# Altium integrated library Linear Technology Comparators.IntLib: 630 symbols (part 12 of 24)
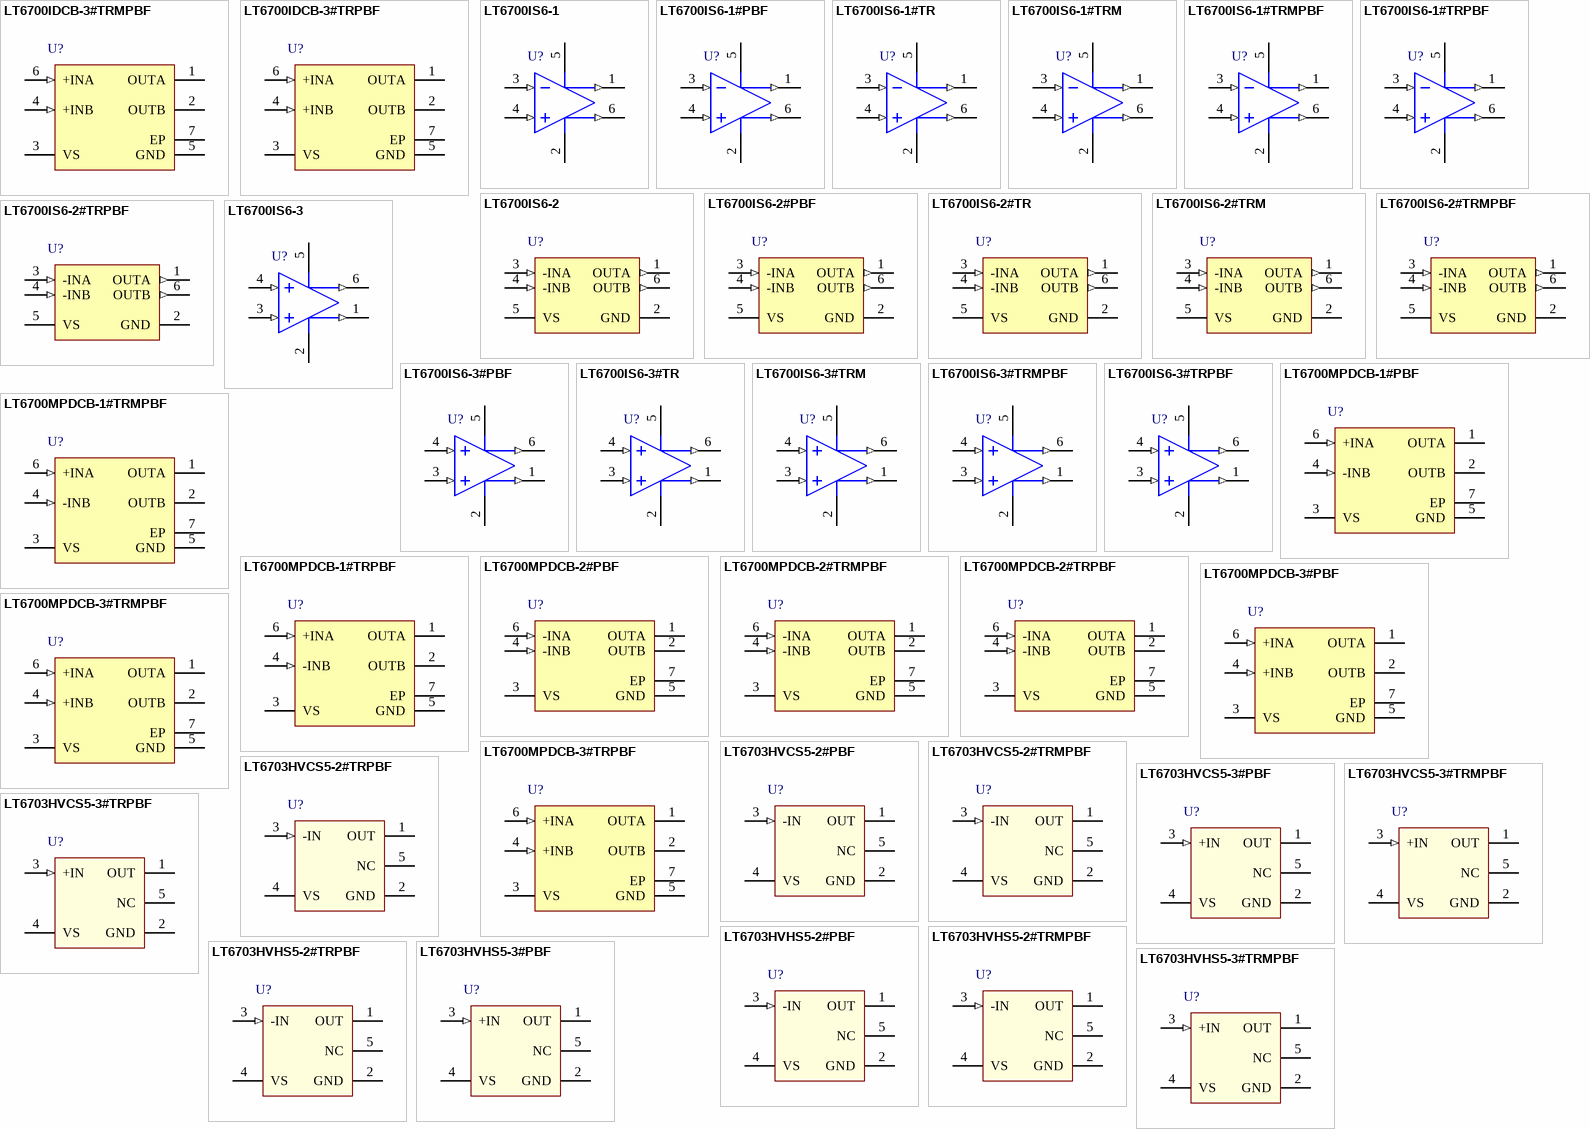
[diagram p35: symbols LT6700IDCB-3#TRMPBF to LT6703HVHS5-3#TRMPBF]

## LT6700IS6-1#TRM
designator U?
Micropower, Low Voltage, Comparator with 400 mV Reference, 2 Channels, 1.4 to 18 V, -40 to +85 degC, 6-pin Plastic TSOT-23 (S6), Mini Tape and Reel; Generic Part Number: LT6700-1; Manufacturer: Linear Technology; PartNumber: LT6700IS6-1#TRM; Channels (#): 2; Prop Delay (us): 18; Supply Current (uA) Guaranteed: 10; Supply Current (uA) Typical: 5.7; Vos (mV) Typical: 6; Vs Min (V): 1.4; DatasheetVersion: Rev G; PackageReference: S6; PackageDescription: 6-Pin Plastic TSOT-23, Body 2.9 x 1.63 mm, Pitch 0.95 mm; Supplier 1: Digi-Key; Supplier Part Number 1: LT6700IS6-1#TRM-ND; Supplier 2: Newark; Supplier Part Number 2: 57M9718; Features: Comparator, Window Comparator, Reference, Over-the-Top Inputs; RoHS: N; Supply Voltage Range: 1.4 to 18 V; Vs Max (V): 18; Mounting Technology: Surface Mount; Code_JEDEC: MO-193; ComponentLink1Description: Manufacturer URL; ComponentLink1URL: http://www.linear.com/; ComponentLink2Description: Datasheet; ComponentLink2URL: http://cds.linear.com/docs/en/datasheet/6700123fg.pdf; ComponentLink3Description: Package Specification; ComponentLink3URL: http://cds.linear.com/docs/en/packaging/SOT_6_05-08-1636.pdf
footprint LT-S6_N (SOT23, 6-Leads, Body 2.9x1.63mm, Pitch 0.95mm, IPC Medium Density)
footprint LT-S6_L (SOT23, 6-Leads, Body 2.9x1.63mm, Pitch 0.95mm, IPC High Density)
footprint LT-S6_M (SOT23, 6-Leads, Body 2.9x1.63mm, Pitch 0.95mm, IPC Low Density)
pins: 1 OUTA (out), 2 GND (power), 3 +INA (in), 4 -INB (in), 5 VS (power), 6 OUTB (out)

## LT6700IS6-1#TRMPBF
designator U?
Micropower, Low Voltage, Comparator with 400 mV Reference, 2 Channels, 1.4 to 18 V, -40 to +85 degC, 6-pin Plastic TSOT-23 (S6), Mini Tape and Reel; Generic Part Number: LT6700-1; Manufacturer: Linear Technology; PartNumber: LT6700IS6-1#TRMPBF; Channels (#): 2; Prop Delay (us): 18; Supply Current (uA) Guaranteed: 10; Supply Current (uA) Typical: 5.7; Vos (mV) Typical: 6; Vs Min (V): 1.4; DatasheetVersion: Rev G; PackageReference: S6; PackageDescription: 6-Pin Plastic TSOT-23, Body 2.9 x 1.63 mm, Pitch 0.95 mm; Supplier 1: Digi-Key; Supplier Part Number 1: LT6700IS6-1#TRMPBFTR-ND; Supplier 2: Digi-Key; Supplier Part Number 2: LT6700IS6-1#TRMPBFCT-ND; Supplier 3: Digi-Key; Supplier Part Number 3: LT6700IS6-1#TRMPBFDKR-ND; Supplier 4: Newark; Supplier Part Number 4: 57M9719; Features: Comparator, Window Comparator, Reference, Over-the-Top Inputs; RoHS: Y; Supply Voltage Range: 1.4 to 18 V; Vs Max (V): 18; Mounting Technology: Surface Mount; Code_JEDEC: MO-193; ComponentLink1Description: Manufacturer URL; ComponentLink1URL: http://www.linear.com/; ComponentLink2Description: Datasheet; ComponentLink2URL: http://cds.linear.com/docs/en/datasheet/6700123fg.pdf; ComponentLink3Description: Package Specification; ComponentLink3URL: http://cds.linear.com/docs/en/packaging/SOT_6_05-08-1636.pdf
footprint LT-S6_N (SOT23, 6-Leads, Body 2.9x1.63mm, Pitch 0.95mm, IPC Medium Density)
footprint LT-S6_L (SOT23, 6-Leads, Body 2.9x1.63mm, Pitch 0.95mm, IPC High Density)
footprint LT-S6_M (SOT23, 6-Leads, Body 2.9x1.63mm, Pitch 0.95mm, IPC Low Density)
pins: 1 OUTA (out), 2 GND (power), 3 +INA (in), 4 -INB (in), 5 VS (power), 6 OUTB (out)

## LT6700IS6-1#TRPBF
designator U?
Micropower, Low Voltage, Comparator with 400 mV Reference, 2 Channels, 1.4 to 18 V, -40 to +85 degC, 6-pin Plastic TSOT-23 (S6), Tape and Reel; Generic Part Number: LT6700-1; Manufacturer: Linear Technology; PartNumber: LT6700IS6-1#TRPBF; Channels (#): 2; Prop Delay (us): 18; Supply Current (uA) Guaranteed: 10; Supply Current (uA) Typical: 5.7; Vos (mV) Typical: 6; Vs Min (V): 1.4; DatasheetVersion: Rev G; PackageReference: S6; PackageDescription: 6-Pin Plastic TSOT-23, Body 2.9 x 1.63 mm, Pitch 0.95 mm; Supplier 1: Digi-Key; Supplier Part Number 1: LT6700IS6-1#TRPBF-ND; Supplier 2: Newark; Supplier Part Number 2: 57M9720; Features: Comparator, Window Comparator, Reference, Over-the-Top Inputs; RoHS: Y; Supply Voltage Range: 1.4 to 18 V; Vs Max (V): 18; Mounting Technology: Surface Mount; Code_JEDEC: MO-193; ComponentLink1Description: Manufacturer URL; ComponentLink1URL: http://www.linear.com/; ComponentLink2Description: Datasheet; ComponentLink2URL: http://cds.linear.com/docs/en/datasheet/6700123fg.pdf; ComponentLink3Description: Package Specification; ComponentLink3URL: http://cds.linear.com/docs/en/packaging/SOT_6_05-08-1636.pdf
footprint LT-S6_N (SOT23, 6-Leads, Body 2.9x1.63mm, Pitch 0.95mm, IPC Medium Density)
footprint LT-S6_L (SOT23, 6-Leads, Body 2.9x1.63mm, Pitch 0.95mm, IPC High Density)
footprint LT-S6_M (SOT23, 6-Leads, Body 2.9x1.63mm, Pitch 0.95mm, IPC Low Density)
pins: 1 OUTA (out), 2 GND (power), 3 +INA (in), 4 -INB (in), 5 VS (power), 6 OUTB (out)

## LT6700IS6-2
designator U?
Micropower, Low Voltage, Comparator with 400 mV Reference, 2 Channels, 1.4 to 18 V, -40 to +85 degC, 6-pin Plastic TSOT-23 (S6); Generic Part Number: LT6700-2; Manufacturer: Linear Technology; PartNumber: LT6700IS6-2; Channels (#): 2; Prop Delay (us): 18; Supply Current (uA) Guaranteed: 10; Supply Current (uA) Typical: 5.7; Vos (mV) Typical: 6; Vs Min (V): 1.4; DatasheetVersion: Rev G; PackageReference: S6; PackageDescription: 6-Pin Plastic TSOT-23, Body 2.9 x 1.63 mm, Pitch 0.95 mm; Features: Comparator, Reference, Over-the-Top Inputs; RoHS: N; Supply Voltage Range: 1.4 to 18 V; Vs Max (V): 18; Mounting Technology: Surface Mount; Code_JEDEC: MO-193; ComponentLink1Description: Manufacturer URL; ComponentLink1URL: http://www.linear.com/; ComponentLink2Description: Datasheet; ComponentLink2URL: http://cds.linear.com/docs/en/datasheet/6700123fg.pdf; ComponentLink3Description: Package Specification; ComponentLink3URL: http://cds.linear.com/docs/en/packaging/SOT_6_05-08-1636.pdf
footprint LT-S6_N (SOT23, 6-Leads, Body 2.9x1.63mm, Pitch 0.95mm, IPC Medium Density)
footprint LT-S6_L (SOT23, 6-Leads, Body 2.9x1.63mm, Pitch 0.95mm, IPC High Density)
footprint LT-S6_M (SOT23, 6-Leads, Body 2.9x1.63mm, Pitch 0.95mm, IPC Low Density)
pins: 1 OUTA (out), 2 GND (power), 3 -INA (in), 4 -INB (in), 5 VS (power), 6 OUTB (out)

## LT6700IS6-2#PBF
designator U?
Micropower, Low Voltage, Comparator with 400 mV Reference, 2 Channels, 1.4 to 18 V, -40 to +85 degC, 6-pin Plastic TSOT-23 (S6); Generic Part Number: LT6700-2; Manufacturer: Linear Technology; PartNumber: LT6700IS6-2#PBF; Channels (#): 2; Prop Delay (us): 18; Supply Current (uA) Guaranteed: 10; Supply Current (uA) Typical: 5.7; Vos (mV) Typical: 6; Vs Min (V): 1.4; DatasheetVersion: Rev G; PackageReference: S6; PackageDescription: 6-Pin Plastic TSOT-23, Body 2.9 x 1.63 mm, Pitch 0.95 mm; Supplier 1: Farnell; Supplier Part Number 1: 2294785; Supplier 2: Newark; Supplier Part Number 2: 78T4298; Features: Comparator, Reference, Over-the-Top Inputs; RoHS: Y; Supply Voltage Range: 1.4 to 18 V; Vs Max (V): 18; Mounting Technology: Surface Mount; Code_JEDEC: MO-193; ComponentLink1Description: Manufacturer URL; ComponentLink1URL: http://www.linear.com/; ComponentLink2Description: Datasheet; ComponentLink2URL: http://cds.linear.com/docs/en/datasheet/6700123fg.pdf; ComponentLink3Description: Package Specification; ComponentLink3URL: http://cds.linear.com/docs/en/packaging/SOT_6_05-08-1636.pdf
footprint LT-S6_N (SOT23, 6-Leads, Body 2.9x1.63mm, Pitch 0.95mm, IPC Medium Density)
footprint LT-S6_L (SOT23, 6-Leads, Body 2.9x1.63mm, Pitch 0.95mm, IPC High Density)
footprint LT-S6_M (SOT23, 6-Leads, Body 2.9x1.63mm, Pitch 0.95mm, IPC Low Density)
pins: 1 OUTA (out), 2 GND (power), 3 -INA (in), 4 -INB (in), 5 VS (power), 6 OUTB (out)

## LT6700IS6-2#TR
designator U?
Micropower, Low Voltage, Comparator with 400 mV Reference, 2 Channels, 1.4 to 18 V, -40 to +85 degC, 6-pin Plastic TSOT-23 (S6), Tape and Reel; Generic Part Number: LT6700-2; Manufacturer: Linear Technology; PartNumber: LT6700IS6-2#TR; Channels (#): 2; Prop Delay (us): 18; Supply Current (uA) Guaranteed: 10; Supply Current (uA) Typical: 5.7; Vos (mV) Typical: 6; Vs Min (V): 1.4; DatasheetVersion: Rev G; PackageReference: S6; PackageDescription: 6-Pin Plastic TSOT-23, Body 2.9 x 1.63 mm, Pitch 0.95 mm; Supplier 1: Digi-Key; Supplier Part Number 1: LT6700IS6-2#TR-ND; Supplier 2: Newark; Supplier Part Number 2: 57M9721; Features: Comparator, Reference, Over-the-Top Inputs; RoHS: N; Supply Voltage Range: 1.4 to 18 V; Vs Max (V): 18; Mounting Technology: Surface Mount; Code_JEDEC: MO-193; ComponentLink1Description: Manufacturer URL; ComponentLink1URL: http://www.linear.com/; ComponentLink2Description: Datasheet; ComponentLink2URL: http://cds.linear.com/docs/en/datasheet/6700123fg.pdf; ComponentLink3Description: Package Specification; ComponentLink3URL: http://cds.linear.com/docs/en/packaging/SOT_6_05-08-1636.pdf
footprint LT-S6_N (SOT23, 6-Leads, Body 2.9x1.63mm, Pitch 0.95mm, IPC Medium Density)
footprint LT-S6_L (SOT23, 6-Leads, Body 2.9x1.63mm, Pitch 0.95mm, IPC High Density)
footprint LT-S6_M (SOT23, 6-Leads, Body 2.9x1.63mm, Pitch 0.95mm, IPC Low Density)
pins: 1 OUTA (out), 2 GND (power), 3 -INA (in), 4 -INB (in), 5 VS (power), 6 OUTB (out)

## LT6700IS6-2#TRM
designator U?
Micropower, Low Voltage, Comparator with 400 mV Reference, 2 Channels, 1.4 to 18 V, -40 to +85 degC, 6-pin Plastic TSOT-23 (S6), Mini Tape and Reel; Generic Part Number: LT6700-2; Manufacturer: Linear Technology; PartNumber: LT6700IS6-2#TRM; Channels (#): 2; Prop Delay (us): 18; Supply Current (uA) Guaranteed: 10; Supply Current (uA) Typical: 5.7; Vos (mV) Typical: 6; Vs Min (V): 1.4; DatasheetVersion: Rev G; PackageReference: S6; PackageDescription: 6-Pin Plastic TSOT-23, Body 2.9 x 1.63 mm, Pitch 0.95 mm; Supplier 1: Digi-Key; Supplier Part Number 1: LT6700IS6-2#TRM-ND; Features: Comparator, Reference, Over-the-Top Inputs; RoHS: N; Supply Voltage Range: 1.4 to 18 V; Vs Max (V): 18; Mounting Technology: Surface Mount; Code_JEDEC: MO-193; ComponentLink1Description: Manufacturer URL; ComponentLink1URL: http://www.linear.com/; ComponentLink2Description: Datasheet; ComponentLink2URL: http://cds.linear.com/docs/en/datasheet/6700123fg.pdf; ComponentLink3Description: Package Specification; ComponentLink3URL: http://cds.linear.com/docs/en/packaging/SOT_6_05-08-1636.pdf
footprint LT-S6_N (SOT23, 6-Leads, Body 2.9x1.63mm, Pitch 0.95mm, IPC Medium Density)
footprint LT-S6_L (SOT23, 6-Leads, Body 2.9x1.63mm, Pitch 0.95mm, IPC High Density)
footprint LT-S6_M (SOT23, 6-Leads, Body 2.9x1.63mm, Pitch 0.95mm, IPC Low Density)
pins: 1 OUTA (out), 2 GND (power), 3 -INA (in), 4 -INB (in), 5 VS (power), 6 OUTB (out)

## LT6700IS6-2#TRMPBF
designator U?
Micropower, Low Voltage, Comparator with 400 mV Reference, 2 Channels, 1.4 to 18 V, -40 to +85 degC, 6-pin Plastic TSOT-23 (S6), Mini Tape and Reel; Generic Part Number: LT6700-2; Manufacturer: Linear Technology; PartNumber: LT6700IS6-2#TRMPBF; Channels (#): 2; Prop Delay (us): 18; Supply Current (uA) Guaranteed: 10; Supply Current (uA) Typical: 5.7; Vos (mV) Typical: 6; Vs Min (V): 1.4; DatasheetVersion: Rev G; PackageReference: S6; PackageDescription: 6-Pin Plastic TSOT-23, Body 2.9 x 1.63 mm, Pitch 0.95 mm; Supplier 1: Digi-Key; Supplier Part Number 1: LT6700IS6-2#TRMPBF-ND; Supplier 2: Newark; Supplier Part Number 2: 57M9723; Features: Comparator, Reference, Over-the-Top Inputs; RoHS: Y; Supply Voltage Range: 1.4 to 18 V; Vs Max (V): 18; Mounting Technology: Surface Mount; Code_JEDEC: MO-193; ComponentLink1Description: Manufacturer URL; ComponentLink1URL: http://www.linear.com/; ComponentLink2Description: Datasheet; ComponentLink2URL: http://cds.linear.com/docs/en/datasheet/6700123fg.pdf; ComponentLink3Description: Package Specification; ComponentLink3URL: http://cds.linear.com/docs/en/packaging/SOT_6_05-08-1636.pdf
footprint LT-S6_N (SOT23, 6-Leads, Body 2.9x1.63mm, Pitch 0.95mm, IPC Medium Density)
footprint LT-S6_L (SOT23, 6-Leads, Body 2.9x1.63mm, Pitch 0.95mm, IPC High Density)
footprint LT-S6_M (SOT23, 6-Leads, Body 2.9x1.63mm, Pitch 0.95mm, IPC Low Density)
pins: 1 OUTA (out), 2 GND (power), 3 -INA (in), 4 -INB (in), 5 VS (power), 6 OUTB (out)

## LT6700IS6-2#TRPBF
designator U?
Micropower, Low Voltage, Comparator with 400 mV Reference, 2 Channels, 1.4 to 18 V, -40 to +85 degC, 6-pin Plastic TSOT-23 (S6), Tape and Reel; Generic Part Number: LT6700-2; Manufacturer: Linear Technology; PartNumber: LT6700IS6-2#TRPBF; Channels (#): 2; Prop Delay (us): 18; Supply Current (uA) Guaranteed: 10; Supply Current (uA) Typical: 5.7; Vos (mV) Typical: 6; Vs Min (V): 1.4; DatasheetVersion: Rev G; PackageReference: S6; PackageDescription: 6-Pin Plastic TSOT-23, Body 2.9 x 1.63 mm, Pitch 0.95 mm; Supplier 1: Digi-Key; Supplier Part Number 1: LT6700IS6-2#TRPBF-ND; Supplier 2: Newark; Supplier Part Number 2: 57M9724; Features: Comparator, Reference, Over-the-Top Inputs; RoHS: Y; Supply Voltage Range: 1.4 to 18 V; Vs Max (V): 18; Mounting Technology: Surface Mount; Code_JEDEC: MO-193; ComponentLink1Description: Manufacturer URL; ComponentLink1URL: http://www.linear.com/; ComponentLink2Description: Datasheet; ComponentLink2URL: http://cds.linear.com/docs/en/datasheet/6700123fg.pdf; ComponentLink3Description: Package Specification; ComponentLink3URL: http://cds.linear.com/docs/en/packaging/SOT_6_05-08-1636.pdf
footprint LT-S6_N (SOT23, 6-Leads, Body 2.9x1.63mm, Pitch 0.95mm, IPC Medium Density)
footprint LT-S6_L (SOT23, 6-Leads, Body 2.9x1.63mm, Pitch 0.95mm, IPC High Density)
footprint LT-S6_M (SOT23, 6-Leads, Body 2.9x1.63mm, Pitch 0.95mm, IPC Low Density)
pins: 1 OUTA (out), 2 GND (power), 3 -INA (in), 4 -INB (in), 5 VS (power), 6 OUTB (out)

## LT6700IS6-3
designator U?
Micropower, Low Voltage, Comparator with 400 mV Reference, 2 Channels, 1.4 to 18 V, -40 to +85 degC, 6-pin Plastic TSOT-23 (S6); Generic Part Number: LT6700-3; Manufacturer: Linear Technology; PartNumber: LT6700IS6-3; Channels (#): 2; Prop Delay (us): 18; Supply Current (uA) Guaranteed: 10; Supply Current (uA) Typical: 5.7; Vos (mV) Typical: 6; Vs Min (V): 1.4; DatasheetVersion: Rev G; PackageReference: S6; PackageDescription: 6-Pin Plastic TSOT-23, Body 2.9 x 1.63 mm, Pitch 0.95 mm; Features: Comparator, Reference, Over-the-Top Inputs; RoHS: N; Supply Voltage Range: 1.4 to 18 V; Vs Max (V): 18; Mounting Technology: Surface Mount; Code_JEDEC: MO-193; ComponentLink1Description: Manufacturer URL; ComponentLink1URL: http://www.linear.com/; ComponentLink2Description: Datasheet; ComponentLink2URL: http://cds.linear.com/docs/en/datasheet/6700123fg.pdf; ComponentLink3Description: Package Specification; ComponentLink3URL: http://cds.linear.com/docs/en/packaging/SOT_6_05-08-1636.pdf
footprint LT-S6_N (SOT23, 6-Leads, Body 2.9x1.63mm, Pitch 0.95mm, IPC Medium Density)
footprint LT-S6_L (SOT23, 6-Leads, Body 2.9x1.63mm, Pitch 0.95mm, IPC High Density)
footprint LT-S6_M (SOT23, 6-Leads, Body 2.9x1.63mm, Pitch 0.95mm, IPC Low Density)
pins: 1 OUTA (out), 2 GND (power), 3 +INA (in), 4 +INB (in), 5 VS (power), 6 OUTB (out)

## LT6700IS6-3#PBF
designator U?
Micropower, Low Voltage, Comparator with 400 mV Reference, 2 Channels, 1.4 to 18 V, -40 to +85 degC, 6-pin Plastic TSOT-23 (S6); Generic Part Number: LT6700-3; Manufacturer: Linear Technology; PartNumber: LT6700IS6-3#PBF; Channels (#): 2; Prop Delay (us): 18; Supply Current (uA) Guaranteed: 10; Supply Current (uA) Typical: 5.7; Vos (mV) Typical: 6; Vs Min (V): 1.4; DatasheetVersion: Rev G; PackageReference: S6; PackageDescription: 6-Pin Plastic TSOT-23, Body 2.9 x 1.63 mm, Pitch 0.95 mm; Supplier 1: Newark; Supplier Part Number 1: 78T4299; Features: Comparator, Reference, Over-the-Top Inputs; RoHS: Y; Supply Voltage Range: 1.4 to 18 V; Vs Max (V): 18; Mounting Technology: Surface Mount; Code_JEDEC: MO-193; ComponentLink1Description: Manufacturer URL; ComponentLink1URL: http://www.linear.com/; ComponentLink2Description: Datasheet; ComponentLink2URL: http://cds.linear.com/docs/en/datasheet/6700123fg.pdf; ComponentLink3Description: Package Specification; ComponentLink3URL: http://cds.linear.com/docs/en/packaging/SOT_6_05-08-1636.pdf
footprint LT-S6_N (SOT23, 6-Leads, Body 2.9x1.63mm, Pitch 0.95mm, IPC Medium Density)
footprint LT-S6_L (SOT23, 6-Leads, Body 2.9x1.63mm, Pitch 0.95mm, IPC High Density)
footprint LT-S6_M (SOT23, 6-Leads, Body 2.9x1.63mm, Pitch 0.95mm, IPC Low Density)
pins: 1 OUTA (out), 2 GND (power), 3 +INA (in), 4 +INB (in), 5 VS (power), 6 OUTB (out)

## LT6700IS6-3#TR
designator U?
Micropower, Low Voltage, Comparator with 400 mV Reference, 2 Channels, 1.4 to 18 V, -40 to +85 degC, 6-pin Plastic TSOT-23 (S6), Tape and Reel; Generic Part Number: LT6700-3; Manufacturer: Linear Technology; PartNumber: LT6700IS6-3#TR; Channels (#): 2; Prop Delay (us): 18; Supply Current (uA) Guaranteed: 10; Supply Current (uA) Typical: 5.7; Vos (mV) Typical: 6; Vs Min (V): 1.4; DatasheetVersion: Rev G; PackageReference: S6; PackageDescription: 6-Pin Plastic TSOT-23, Body 2.9 x 1.63 mm, Pitch 0.95 mm; Supplier 1: Digi-Key; Supplier Part Number 1: LT6700IS6-3#TR-ND; Features: Comparator, Reference, Over-the-Top Inputs; RoHS: N; Supply Voltage Range: 1.4 to 18 V; Vs Max (V): 18; Mounting Technology: Surface Mount; Code_JEDEC: MO-193; ComponentLink1Description: Manufacturer URL; ComponentLink1URL: http://www.linear.com/; ComponentLink2Description: Datasheet; ComponentLink2URL: http://cds.linear.com/docs/en/datasheet/6700123fg.pdf; ComponentLink3Description: Package Specification; ComponentLink3URL: http://cds.linear.com/docs/en/packaging/SOT_6_05-08-1636.pdf
footprint LT-S6_N (SOT23, 6-Leads, Body 2.9x1.63mm, Pitch 0.95mm, IPC Medium Density)
footprint LT-S6_L (SOT23, 6-Leads, Body 2.9x1.63mm, Pitch 0.95mm, IPC High Density)
footprint LT-S6_M (SOT23, 6-Leads, Body 2.9x1.63mm, Pitch 0.95mm, IPC Low Density)
pins: 1 OUTA (out), 2 GND (power), 3 +INA (in), 4 +INB (in), 5 VS (power), 6 OUTB (out)

## LT6700IS6-3#TRM
designator U?
Micropower, Low Voltage, Comparator with 400 mV Reference, 2 Channels, 1.4 to 18 V, -40 to +85 degC, 6-pin Plastic TSOT-23 (S6), Mini Tape and Reel; Generic Part Number: LT6700-3; Manufacturer: Linear Technology; PartNumber: LT6700IS6-3#TRM; Channels (#): 2; Prop Delay (us): 18; Supply Current (uA) Guaranteed: 10; Supply Current (uA) Typical: 5.7; Vos (mV) Typical: 6; Vs Min (V): 1.4; DatasheetVersion: Rev G; PackageReference: S6; PackageDescription: 6-Pin Plastic TSOT-23, Body 2.9 x 1.63 mm, Pitch 0.95 mm; Supplier 1: Digi-Key; Supplier Part Number 1: LT6700IS6-3#TRM-ND; Features: Comparator, Reference, Over-the-Top Inputs; RoHS: N; Supply Voltage Range: 1.4 to 18 V; Vs Max (V): 18; Mounting Technology: Surface Mount; Code_JEDEC: MO-193; ComponentLink1Description: Manufacturer URL; ComponentLink1URL: http://www.linear.com/; ComponentLink2Description: Datasheet; ComponentLink2URL: http://cds.linear.com/docs/en/datasheet/6700123fg.pdf; ComponentLink3Description: Package Specification; ComponentLink3URL: http://cds.linear.com/docs/en/packaging/SOT_6_05-08-1636.pdf
footprint LT-S6_N (SOT23, 6-Leads, Body 2.9x1.63mm, Pitch 0.95mm, IPC Medium Density)
footprint LT-S6_L (SOT23, 6-Leads, Body 2.9x1.63mm, Pitch 0.95mm, IPC High Density)
footprint LT-S6_M (SOT23, 6-Leads, Body 2.9x1.63mm, Pitch 0.95mm, IPC Low Density)
pins: 1 OUTA (out), 2 GND (power), 3 +INA (in), 4 +INB (in), 5 VS (power), 6 OUTB (out)

## LT6700IS6-3#TRMPBF
designator U?
Micropower, Low Voltage, Comparator with 400 mV Reference, 2 Channels, 1.4 to 18 V, -40 to +85 degC, 6-pin Plastic TSOT-23 (S6), Mini Tape and Reel; Generic Part Number: LT6700-3; Manufacturer: Linear Technology; PartNumber: LT6700IS6-3#TRMPBF; Channels (#): 2; Prop Delay (us): 18; Supply Current (uA) Guaranteed: 10; Supply Current (uA) Typical: 5.7; Vos (mV) Typical: 6; Vs Min (V): 1.4; DatasheetVersion: Rev G; PackageReference: S6; PackageDescription: 6-Pin Plastic TSOT-23, Body 2.9 x 1.63 mm, Pitch 0.95 mm; Supplier 1: Digi-Key; Supplier Part Number 1: LT6700IS6-3#TRMPBFTR-ND; Supplier 2: Digi-Key; Supplier Part Number 2: LT6700IS6-3#TRMPBFCT-ND; Supplier 3: Digi-Key; Supplier Part Number 3: LT6700IS6-3#TRMPBFDKR-ND; Supplier 4: Farnell; Supplier Part Number 4: 2115819; Supplier 5: Newark; Supplier Part Number 5: 57M9727; Features: Comparator, Reference, Over-the-Top Inputs; RoHS: Y; Supply Voltage Range: 1.4 to 18 V; Vs Max (V): 18; Mounting Technology: Surface Mount; Code_JEDEC: MO-193; ComponentLink1Description: Manufacturer URL; ComponentLink1URL: http://www.linear.com/; ComponentLink2Description: Datasheet; ComponentLink2URL: http://cds.linear.com/docs/en/datasheet/6700123fg.pdf; ComponentLink3Description: Package Specification; ComponentLink3URL: http://cds.linear.com/docs/en/packaging/SOT_6_05-08-1636.pdf
footprint LT-S6_N (SOT23, 6-Leads, Body 2.9x1.63mm, Pitch 0.95mm, IPC Medium Density)
footprint LT-S6_L (SOT23, 6-Leads, Body 2.9x1.63mm, Pitch 0.95mm, IPC High Density)
footprint LT-S6_M (SOT23, 6-Leads, Body 2.9x1.63mm, Pitch 0.95mm, IPC Low Density)
pins: 1 OUTA (out), 2 GND (power), 3 +INA (in), 4 +INB (in), 5 VS (power), 6 OUTB (out)

## LT6700IS6-3#TRPBF
designator U?
Micropower, Low Voltage, Comparator with 400 mV Reference, 2 Channels, 1.4 to 18 V, -40 to +85 degC, 6-pin Plastic TSOT-23 (S6), Tape and Reel; Generic Part Number: LT6700-3; Manufacturer: Linear Technology; PartNumber: LT6700IS6-3#TRPBF; Channels (#): 2; Prop Delay (us): 18; Supply Current (uA) Guaranteed: 10; Supply Current (uA) Typical: 5.7; Vos (mV) Typical: 6; Vs Min (V): 1.4; DatasheetVersion: Rev G; PackageReference: S6; PackageDescription: 6-Pin Plastic TSOT-23, Body 2.9 x 1.63 mm, Pitch 0.95 mm; Supplier 1: Digi-Key; Supplier Part Number 1: LT6700IS6-3#TRPBF-ND; Features: Comparator, Reference, Over-the-Top Inputs; RoHS: Y; Supply Voltage Range: 1.4 to 18 V; Vs Max (V): 18; Mounting Technology: Surface Mount; Code_JEDEC: MO-193; ComponentLink1Description: Manufacturer URL; ComponentLink1URL: http://www.linear.com/; ComponentLink2Description: Datasheet; ComponentLink2URL: http://cds.linear.com/docs/en/datasheet/6700123fg.pdf; ComponentLink3Description: Package Specification; ComponentLink3URL: http://cds.linear.com/docs/en/packaging/SOT_6_05-08-1636.pdf
footprint LT-S6_N (SOT23, 6-Leads, Body 2.9x1.63mm, Pitch 0.95mm, IPC Medium Density)
footprint LT-S6_L (SOT23, 6-Leads, Body 2.9x1.63mm, Pitch 0.95mm, IPC High Density)
footprint LT-S6_M (SOT23, 6-Leads, Body 2.9x1.63mm, Pitch 0.95mm, IPC Low Density)
pins: 1 OUTA (out), 2 GND (power), 3 +INA (in), 4 +INB (in), 5 VS (power), 6 OUTB (out)

## LT6700MPDCB-1#PBF
designator U?
Micropower, Low Voltage, Comparator with 400 mV Reference, 2 Channels, 1.4 to 18 V, -55 to +125 degC, 6-pin Plastic DFN (DCB6); Generic Part Number: LT6700-1; Manufacturer: Linear Technology; PartNumber: LT6700MPDCB-1#PBF; Channels (#): 2; Prop Delay (us): 18; Supply Current (uA) Guaranteed: 10; Supply Current (uA) Typical: 5.7; Vos (mV) Typical: 6; Vs Min (V): 1.4; DatasheetVersion: Rev G; PackageReference: DCB6; PackageDescription: 6-Pin Plastic DFN, Body 2 × 3 mm, Pitch 1.35 mm; Supplier 1: Newark; Supplier Part Number 1: 78T4300; Features: Comparator, Window Comparator, Reference, Over-the-Top Inputs; RoHS: Y; Supply Voltage Range: 1.4 to 18 V; Vs Max (V): 18; Mounting Technology: Surface Mount; Code_JEDEC: M0-229; ComponentLink1Description: Manufacturer URL; ComponentLink1URL: http://www.linear.com/; ComponentLink2Description: Datasheet; ComponentLink2URL: http://cds.linear.com/docs/en/datasheet/6700123fg.pdf; ComponentLink3Description: Package Specification; ComponentLink3URL: http://cds.linear.com/docs/en/packaging/(DCB6)%20DFN%2005-08-1715%20Rev%20A.pdf
footprint LT-DCB6_V (SON, 6-Leads, Body 2x3mm, Pitch 0.5mm, Thermal Pad 1.35x1.65mm)
pins: 1 OUTA (oc) "Open-Collector Output of Comparator Section A This pin provides drive for up to 40mA of load current.off state voltage may be as high as 18V (36V for LT6700HV) above GND ,regardless of VS used.", 2 OUTB (oc) "Open-Collector Output of Comparator Section B  This pin provides drive for up to 40mA of load current .off state voltage may be as high as 18V(36V for LT6700HV)above  GND,regardless of VS used.", 3 VS (power) "Comparator Core Supply Voltage. The parts are characterized for operation with 1.4V =< VS =< 18V with respect to GND.", 4 -INB (in) "External Input for Comparator Section B. The voltage on this pin can range from -0.3V to 18V (36V for LT6700HV) with respect to GND regardless of VS used. The input is noninverting for the LT6700-3/LT6700HV-3, and inverting (See Datasheet)", 5 GND (power) "Ground. This pin is also the low side return of the internal 400mV reference", 6 +INA (in) "External Input for Comparator Section A. The voltage on this pin can range from -0.3V to 18V (36V for LT6700HV) with respect to GND regardless of VS used. The input is (See Datasheet)", 7 EP (power)

## LT6700MPDCB-1#TRMPBF
designator U?
Micropower, Low Voltage, Comparator with 400 mV Reference, 2 Channels, 1.4 to 18 V, -55 to +125 degC, 6-pin Plastic DFN (DCB6), Mini Tape and Reel; Generic Part Number: LT6700-1; Manufacturer: Linear Technology; PartNumber: LT6700MPDCB-1#TRMPBF; Channels (#): 2; Prop Delay (us): 18; Supply Current (uA) Guaranteed: 10; Supply Current (uA) Typical: 5.7; Vos (mV) Typical: 6; Vs Min (V): 1.4; DatasheetVersion: Rev G; PackageReference: DCB6; PackageDescription: 6-Pin Plastic DFN, Body 2 × 3 mm, Pitch 1.35 mm; Supplier 1: Digi-Key; Supplier Part Number 1: LT6700MPDCB-1#TRMPBF-ND; Supplier 2: Newark; Supplier Part Number 2: 15N5495; Features: Comparator, Window Comparator, Reference, Over-the-Top Inputs; RoHS: Y; Supply Voltage Range: 1.4 to 18 V; Vs Max (V): 18; Mounting Technology: Surface Mount; Code_JEDEC: M0-229; ComponentLink1Description: Manufacturer URL; ComponentLink1URL: http://www.linear.com/; ComponentLink2Description: Datasheet; ComponentLink2URL: http://cds.linear.com/docs/en/datasheet/6700123fg.pdf; ComponentLink3Description: Package Specification; ComponentLink3URL: http://cds.linear.com/docs/en/packaging/(DCB6)%20DFN%2005-08-1715%20Rev%20A.pdf
footprint LT-DCB6_V (SON, 6-Leads, Body 2x3mm, Pitch 0.5mm, Thermal Pad 1.35x1.65mm)
pins: 1 OUTA (oc) "Open-Collector Output of Comparator Section A This pin provides drive for up to 40mA of load current.off state voltage may be as high as 18V (36V for LT6700HV) above GND ,regardless of VS used.", 2 OUTB (oc) "Open-Collector Output of Comparator Section B  This pin provides drive for up to 40mA of load current .off state voltage may be as high as 18V(36V for LT6700HV)above  GND,regardless of VS used.", 3 VS (power) "Comparator Core Supply Voltage. The parts are characterized for operation with 1.4V =< VS =< 18V with respect to GND.", 4 -INB (in) "External Input for Comparator Section B. The voltage on this pin can range from -0.3V to 18V (36V for LT6700HV) with respect to GND regardless of VS used. The input is noninverting for the LT6700-3/LT6700HV-3, and inverting (See Datasheet)", 5 GND (power) "Ground. This pin is also the low side return of the internal 400mV reference", 6 +INA (in) "External Input for Comparator Section A. The voltage on this pin can range from -0.3V to 18V (36V for LT6700HV) with respect to GND regardless of VS used. The input is (See Datasheet)", 7 EP (power)

## LT6700MPDCB-1#TRPBF
designator U?
Micropower, Low Voltage, Comparator with 400 mV Reference, 2 Channels, 1.4 to 18 V, -55 to +125 degC, 6-pin Plastic DFN (DCB6), Tape and Reel; Generic Part Number: LT6700-1; Manufacturer: Linear Technology; PartNumber: LT6700MPDCB-1#TRPBF; Channels (#): 2; Prop Delay (us): 18; Supply Current (uA) Guaranteed: 10; Supply Current (uA) Typical: 5.7; Vos (mV) Typical: 6; Vs Min (V): 1.4; DatasheetVersion: Rev G; PackageReference: DCB6; PackageDescription: 6-Pin Plastic DFN, Body 2 × 3 mm, Pitch 1.35 mm; Supplier 1: Digi-Key; Supplier Part Number 1: LT6700MPDCB-1#TRPBF-ND; Features: Comparator, Window Comparator, Reference, Over-the-Top Inputs; RoHS: Y; Supply Voltage Range: 1.4 to 18 V; Vs Max (V): 18; Mounting Technology: Surface Mount; Code_JEDEC: M0-229; ComponentLink1Description: Manufacturer URL; ComponentLink1URL: http://www.linear.com/; ComponentLink2Description: Datasheet; ComponentLink2URL: http://cds.linear.com/docs/en/datasheet/6700123fg.pdf; ComponentLink3Description: Package Specification; ComponentLink3URL: http://cds.linear.com/docs/en/packaging/(DCB6)%20DFN%2005-08-1715%20Rev%20A.pdf
footprint LT-DCB6_V (SON, 6-Leads, Body 2x3mm, Pitch 0.5mm, Thermal Pad 1.35x1.65mm)
pins: 1 OUTA (oc) "Open-Collector Output of Comparator Section A This pin provides drive for up to 40mA of load current.off state voltage may be as high as 18V (36V for LT6700HV) above GND ,regardless of VS used.", 2 OUTB (oc) "Open-Collector Output of Comparator Section B  This pin provides drive for up to 40mA of load current .off state voltage may be as high as 18V(36V for LT6700HV)above  GND,regardless of VS used.", 3 VS (power) "Comparator Core Supply Voltage. The parts are characterized for operation with 1.4V =< VS =< 18V with respect to GND.", 4 -INB (in) "External Input for Comparator Section B. The voltage on this pin can range from -0.3V to 18V (36V for LT6700HV) with respect to GND regardless of VS used. The input is noninverting for the LT6700-3/LT6700HV-3, and inverting (See Datasheet)", 5 GND (power) "Ground. This pin is also the low side return of the internal 400mV reference", 6 +INA (in) "External Input for Comparator Section A. The voltage on this pin can range from -0.3V to 18V (36V for LT6700HV) with respect to GND regardless of VS used. The input is (See Datasheet)", 7 EP (power)

## LT6700MPDCB-2#PBF
designator U?
Micropower, Low Voltage, Comparator with 400 mV Reference, 2 Channels, 1.4 to 18 V, -55 to +125 degC, 6-pin Plastic DFN (DCB6); Generic Part Number: LT6700-2; Manufacturer: Linear Technology; PartNumber: LT6700MPDCB-2#PBF; Channels (#): 2; Prop Delay (us): 18; Supply Current (uA) Guaranteed: 10; Supply Current (uA) Typical: 5.7; Vos (mV) Typical: 6; Vs Min (V): 1.4; DatasheetVersion: Rev G; PackageReference: DCB6; PackageDescription: 6-Pin Plastic DFN, Body 2 × 3 mm, Pitch 1.35 mm; Supplier 1: Newark; Supplier Part Number 1: 78T4301; Features: Comparator, Reference, Over-the-Top Inputs; RoHS: Y; Supply Voltage Range: 1.4 to 18 V; Vs Max (V): 18; Mounting Technology: Surface Mount; Code_JEDEC: M0-229; ComponentLink1Description: Manufacturer URL; ComponentLink1URL: http://www.linear.com/; ComponentLink2Description: Datasheet; ComponentLink2URL: http://cds.linear.com/docs/en/datasheet/6700123fg.pdf; ComponentLink3Description: Package Specification; ComponentLink3URL: http://cds.linear.com/docs/en/packaging/(DCB6)%20DFN%2005-08-1715%20Rev%20A.pdf
footprint LT-DCB6_V (SON, 6-Leads, Body 2x3mm, Pitch 0.5mm, Thermal Pad 1.35x1.65mm)
pins: 1 OUTA (oc) "Open-Collector Output of Comparator Section A.This pin provides drive for up to 40mA of load current. Offstate voltage may be as high as 36V for LT6700HV above GND, regardless of VS used.", 2 OUTB (oc) "Open-Collector Output of Comparator Section B.This pin provides drive for up to 40mA of load current. Offstate voltage may be as high as 36V for LT6700HV above GND, regardless of VS used.", 3 VS (power) "Comparator Core Supply Voltage. The parts are characterized for operation with 1.4V =< VS =< 18V with respect to GND.", 4 -INB (in) "External Input for Comparator Section B. The voltage on this pin can range from -0.3V to 36V for LT6700HV withrespecttoGNDregardlessofVSused.TheinputisnoninvertingfortheLT6700-1/LT6700HV-1andLT6700-3/LT6700HV-3, and (See Datasheet)", 5 GND (power) "Ground. This pin is also the low side return of theinternal 400mV reference.", 6 -INA (in) "External Input for Comparator Section A. The voltage on this pin can range from -0.3V to 36V for LT6700HV withrespecttoGNDregardlessofVSused.TheinputisnoninvertingfortheLT6700-1/LT6700HV-1andLT6700-3/LT6700HV-3, and (See Datasheet)", 7 EP (power) "Soldered exposed pad (pin 7)  internally connected to gnd"

## LT6700MPDCB-2#TRMPBF
designator U?
Micropower, Low Voltage, Comparator with 400 mV Reference, 2 Channels, 1.4 to 18 V, -55 to +125 degC, 6-pin Plastic DFN (DCB6), Mini Tape and Reel; Generic Part Number: LT6700-2; Manufacturer: Linear Technology; PartNumber: LT6700MPDCB-2#TRMPBF; Channels (#): 2; Prop Delay (us): 18; Supply Current (uA) Guaranteed: 10; Supply Current (uA) Typical: 5.7; Vos (mV) Typical: 6; Vs Min (V): 1.4; DatasheetVersion: Rev G; PackageReference: DCB6; PackageDescription: 6-Pin Plastic DFN, Body 2 × 3 mm, Pitch 1.35 mm; Supplier 1: Digi-Key; Supplier Part Number 1: LT6700MPDCB-2#TRMPBF-ND; Supplier 2: Newark; Supplier Part Number 2: 15N5497; Features: Comparator, Reference, Over-the-Top Inputs; RoHS: Y; Supply Voltage Range: 1.4 to 18 V; Vs Max (V): 18; Mounting Technology: Surface Mount; Code_JEDEC: M0-229; ComponentLink1Description: Manufacturer URL; ComponentLink1URL: http://www.linear.com/; ComponentLink2Description: Datasheet; ComponentLink2URL: http://cds.linear.com/docs/en/datasheet/6700123fg.pdf; ComponentLink3Description: Package Specification; ComponentLink3URL: http://cds.linear.com/docs/en/packaging/(DCB6)%20DFN%2005-08-1715%20Rev%20A.pdf
footprint LT-DCB6_V (SON, 6-Leads, Body 2x3mm, Pitch 0.5mm, Thermal Pad 1.35x1.65mm)
pins: 1 OUTA (oc) "Open-Collector Output of Comparator Section A.This pin provides drive for up to 40mA of load current. Offstate voltage may be as high as 36V for LT6700HV above GND, regardless of VS used.", 2 OUTB (oc) "Open-Collector Output of Comparator Section B.This pin provides drive for up to 40mA of load current. Offstate voltage may be as high as 36V for LT6700HV above GND, regardless of VS used.", 3 VS (power) "Comparator Core Supply Voltage. The parts are characterized for operation with 1.4V =< VS =< 18V with respect to GND.", 4 -INB (in) "External Input for Comparator Section B. The voltage on this pin can range from -0.3V to 36V for LT6700HV withrespecttoGNDregardlessofVSused.TheinputisnoninvertingfortheLT6700-1/LT6700HV-1andLT6700-3/LT6700HV-3, and (See Datasheet)", 5 GND (power) "Ground. This pin is also the low side return of theinternal 400mV reference.", 6 -INA (in) "External Input for Comparator Section A. The voltage on this pin can range from -0.3V to 36V for LT6700HV withrespecttoGNDregardlessofVSused.TheinputisnoninvertingfortheLT6700-1/LT6700HV-1andLT6700-3/LT6700HV-3, and (See Datasheet)", 7 EP (power) "Soldered exposed pad (pin 7)  internally connected to gnd"

## LT6700MPDCB-2#TRPBF
designator U?
Micropower, Low Voltage, Comparator with 400 mV Reference, 2 Channels, 1.4 to 18 V, -55 to +125 degC, 6-pin Plastic DFN (DCB6), Tape and Reel; Generic Part Number: LT6700-2; Manufacturer: Linear Technology; PartNumber: LT6700MPDCB-2#TRPBF; Channels (#): 2; Prop Delay (us): 18; Supply Current (uA) Guaranteed: 10; Supply Current (uA) Typical: 5.7; Vos (mV) Typical: 6; Vs Min (V): 1.4; DatasheetVersion: Rev G; PackageReference: DCB6; PackageDescription: 6-Pin Plastic DFN, Body 2 × 3 mm, Pitch 1.35 mm; Supplier 1: Digi-Key; Supplier Part Number 1: LT6700MPDCB-2#TRPBF-ND; Features: Comparator, Reference, Over-the-Top Inputs; RoHS: Y; Supply Voltage Range: 1.4 to 18 V; Vs Max (V): 18; Mounting Technology: Surface Mount; Code_JEDEC: M0-229; ComponentLink1Description: Manufacturer URL; ComponentLink1URL: http://www.linear.com/; ComponentLink2Description: Datasheet; ComponentLink2URL: http://cds.linear.com/docs/en/datasheet/6700123fg.pdf; ComponentLink3Description: Package Specification; ComponentLink3URL: http://cds.linear.com/docs/en/packaging/(DCB6)%20DFN%2005-08-1715%20Rev%20A.pdf
footprint LT-DCB6_V (SON, 6-Leads, Body 2x3mm, Pitch 0.5mm, Thermal Pad 1.35x1.65mm)
pins: 1 OUTA (oc) "Open-Collector Output of Comparator Section A.This pin provides drive for up to 40mA of load current. Offstate voltage may be as high as 36V for LT6700HV above GND, regardless of VS used.", 2 OUTB (oc) "Open-Collector Output of Comparator Section B.This pin provides drive for up to 40mA of load current. Offstate voltage may be as high as 36V for LT6700HV above GND, regardless of VS used.", 3 VS (power) "Comparator Core Supply Voltage. The parts are characterized for operation with 1.4V =< VS =< 18V with respect to GND.", 4 -INB (in) "External Input for Comparator Section B. The voltage on this pin can range from -0.3V to 36V for LT6700HV withrespecttoGNDregardlessofVSused.TheinputisnoninvertingfortheLT6700-1/LT6700HV-1andLT6700-3/LT6700HV-3, and (See Datasheet)", 5 GND (power) "Ground. This pin is also the low side return of theinternal 400mV reference.", 6 -INA (in) "External Input for Comparator Section A. The voltage on this pin can range from -0.3V to 36V for LT6700HV withrespecttoGNDregardlessofVSused.TheinputisnoninvertingfortheLT6700-1/LT6700HV-1andLT6700-3/LT6700HV-3, and (See Datasheet)", 7 EP (power) "Soldered exposed pad (pin 7)  internally connected to gnd"

## LT6700MPDCB-3#PBF
designator U?
Micropower, Low Voltage, Comparator with 400 mV Reference, 2 Channels, 1.4 to 18 V, -55 to +125 degC, 6-pin Plastic DFN (DCB6); Generic Part Number: LT6700-3; Manufacturer: Linear Technology; PartNumber: LT6700MPDCB-3#PBF; Channels (#): 2; Prop Delay (us): 18; Supply Current (uA) Guaranteed: 10; Supply Current (uA) Typical: 5.7; Vos (mV) Typical: 6; Vs Min (V): 1.4; DatasheetVersion: Rev G; PackageReference: DCB6; PackageDescription: 6-Pin Plastic DFN, Body 2 × 3 mm, Pitch 1.35 mm; Supplier 1: Farnell; Supplier Part Number 1: 2294786; Features: Comparator, Reference, Over-the-Top Inputs; RoHS: Y; Supply Voltage Range: 1.4 to 18 V; Vs Max (V): 18; Mounting Technology: Surface Mount; Code_JEDEC: M0-229; ComponentLink1Description: Manufacturer URL; ComponentLink1URL: http://www.linear.com/; ComponentLink2Description: Datasheet; ComponentLink2URL: http://cds.linear.com/docs/en/datasheet/6700123fg.pdf; ComponentLink3Description: Package Specification; ComponentLink3URL: http://cds.linear.com/docs/en/packaging/(DCB6)%20DFN%2005-08-1715%20Rev%20A.pdf
footprint LT-DCB6_V (SON, 6-Leads, Body 2x3mm, Pitch 0.5mm, Thermal Pad 1.35x1.65mm)
pins: 1 OUTA (oc) "Open-Collector Output of Comparator Section A. This pin provides drive for up to 40mA of load current. Offstate voltage may be as high as 18V above GND, regardless of VS used.", 2 OUTB (oc) "Open-Collector Output of Comparator Section B. This pin provides drive for up to 40mA of load current. Offstate voltage may be as high as 18V above GND, regardless of VS used.", 3 VS (power) "Comparator Core Supply Voltage. The parts are characterized for operation with 1.4V =< VS =< 18V with respect to GND.", 4 +INB (in) "External Input for Comparator Section B. The voltage on this pin can range from -0.3V to 18V with respect to GND regardless of VS used. The input is noninverting. The other section B comparator input is internally connected (See Datasheet)", 5 GND (power) "Ground. This pin is also the low side return of the internal 400mV reference.", 6 +INA (in) "External Input for Comparator Section A. The voltage on this pin can range from -0.3V to 18V with respect to GND regardless of VS used. The input is noninverting. The other section B comparator input is internally connected (See Datasheet)", 7 EP (power)

## LT6700MPDCB-3#TRMPBF
designator U?
Micropower, Low Voltage, Comparator with 400 mV Reference, 2 Channels, 1.4 to 18 V, -55 to +125 degC, 6-pin Plastic DFN (DCB6), Mini Tape and Reel; Generic Part Number: LT6700-3; Manufacturer: Linear Technology; PartNumber: LT6700MPDCB-3#TRMPBF; Channels (#): 2; Prop Delay (us): 18; Supply Current (uA) Guaranteed: 10; Supply Current (uA) Typical: 5.7; Vos (mV) Typical: 6; Vs Min (V): 1.4; DatasheetVersion: Rev G; PackageReference: DCB6; PackageDescription: 6-Pin Plastic DFN, Body 2 × 3 mm, Pitch 1.35 mm; Supplier 1: Digi-Key; Supplier Part Number 1: LT6700MPDCB-3#TRMPBF-ND; Supplier 2: Newark; Supplier Part Number 2: 15N5499; Features: Comparator, Reference, Over-the-Top Inputs; RoHS: Y; Supply Voltage Range: 1.4 to 18 V; Vs Max (V): 18; Mounting Technology: Surface Mount; Code_JEDEC: M0-229; ComponentLink1Description: Manufacturer URL; ComponentLink1URL: http://www.linear.com/; ComponentLink2Description: Datasheet; ComponentLink2URL: http://cds.linear.com/docs/en/datasheet/6700123fg.pdf; ComponentLink3Description: Package Specification; ComponentLink3URL: http://cds.linear.com/docs/en/packaging/(DCB6)%20DFN%2005-08-1715%20Rev%20A.pdf
footprint LT-DCB6_V (SON, 6-Leads, Body 2x3mm, Pitch 0.5mm, Thermal Pad 1.35x1.65mm)
pins: 1 OUTA (oc) "Open-Collector Output of Comparator Section A. This pin provides drive for up to 40mA of load current. Offstate voltage may be as high as 18V above GND, regardless of VS used.", 2 OUTB (oc) "Open-Collector Output of Comparator Section B. This pin provides drive for up to 40mA of load current. Offstate voltage may be as high as 18V above GND, regardless of VS used.", 3 VS (power) "Comparator Core Supply Voltage. The parts are characterized for operation with 1.4V =< VS =< 18V with respect to GND.", 4 +INB (in) "External Input for Comparator Section B. The voltage on this pin can range from -0.3V to 18V with respect to GND regardless of VS used. The input is noninverting. The other section B comparator input is internally connected (See Datasheet)", 5 GND (power) "Ground. This pin is also the low side return of the internal 400mV reference.", 6 +INA (in) "External Input for Comparator Section A. The voltage on this pin can range from -0.3V to 18V with respect to GND regardless of VS used. The input is noninverting. The other section B comparator input is internally connected (See Datasheet)", 7 EP (power)

## LT6700MPDCB-3#TRPBF
designator U?
Micropower, Low Voltage, Comparator with 400 mV Reference, 2 Channels, 1.4 to 18 V, -55 to +125 degC, 6-pin Plastic DFN (DCB6), Tape and Reel; Generic Part Number: LT6700-3; Manufacturer: Linear Technology; PartNumber: LT6700MPDCB-3#TRPBF; Channels (#): 2; Prop Delay (us): 18; Supply Current (uA) Guaranteed: 10; Supply Current (uA) Typical: 5.7; Vos (mV) Typical: 6; Vs Min (V): 1.4; DatasheetVersion: Rev G; PackageReference: DCB6; PackageDescription: 6-Pin Plastic DFN, Body 2 × 3 mm, Pitch 1.35 mm; Supplier 1: Digi-Key; Supplier Part Number 1: LT6700MPDCB-3#TRPBF-ND; Features: Comparator, Reference, Over-the-Top Inputs; RoHS: Y; Supply Voltage Range: 1.4 to 18 V; Vs Max (V): 18; Mounting Technology: Surface Mount; Code_JEDEC: M0-229; ComponentLink1Description: Manufacturer URL; ComponentLink1URL: http://www.linear.com/; ComponentLink2Description: Datasheet; ComponentLink2URL: http://cds.linear.com/docs/en/datasheet/6700123fg.pdf; ComponentLink3Description: Package Specification; ComponentLink3URL: http://cds.linear.com/docs/en/packaging/(DCB6)%20DFN%2005-08-1715%20Rev%20A.pdf
footprint LT-DCB6_V (SON, 6-Leads, Body 2x3mm, Pitch 0.5mm, Thermal Pad 1.35x1.65mm)
pins: 1 OUTA (oc) "Open-Collector Output of Comparator Section A. This pin provides drive for up to 40mA of load current. Offstate voltage may be as high as 18V above GND, regardless of VS used.", 2 OUTB (oc) "Open-Collector Output of Comparator Section B. This pin provides drive for up to 40mA of load current. Offstate voltage may be as high as 18V above GND, regardless of VS used.", 3 VS (power) "Comparator Core Supply Voltage. The parts are characterized for operation with 1.4V =< VS =< 18V with respect to GND.", 4 +INB (in) "External Input for Comparator Section B. The voltage on this pin can range from -0.3V to 18V with respect to GND regardless of VS used. The input is noninverting. The other section B comparator input is internally connected (See Datasheet)", 5 GND (power) "Ground. This pin is also the low side return of the internal 400mV reference.", 6 +INA (in) "External Input for Comparator Section A. The voltage on this pin can range from -0.3V to 18V with respect to GND regardless of VS used. The input is noninverting. The other section B comparator input is internally connected (See Datasheet)", 7 EP (power)

## LT6703HVCS5-2#PBF
designator U?
Micropower, Low Voltage Comparator with 400 mV Reference, 1 Channel, 1.4 to 36 V, 0 to +70 degC, 5-pin Plastic TSOT-23 (S5); Generic Part Number: LT6703HV-2; Manufacturer: Linear Technology; PartNumber: LT6703HVCS5-2#PBF; Channels (#): 1; Prop Delay (us): 18; Supply Current (uA) Guaranteed: 11; Supply Current (uA) Typical: 6.5; Vos (mV) Typical: 5; Vs Max (V): 36; Vs Min (V): 1.4; DatasheetVersion: Rev D; PackageReference: S5; PackageDescription: 5-Pin Plastic TSOT-23, Body 2.9 x 1.63 mm, Pitch 0.95 mm; Features: Comparator, Reference, Over-the-Top Inputs; RoHS: Y; Supply Voltage Range: 1.4 to 36 V; Mounting Technology: Surface Mount; Code_JEDEC: MO-193; ComponentLink1Description: Manufacturer URL; ComponentLink1URL: http://www.linear.com/; ComponentLink2Description: Datasheet; ComponentLink2URL: http://cds.linear.com/docs/en/datasheet/670323fd.pdf; ComponentLink3Description: Package Specification; ComponentLink3URL: http://cds.linear.com/docs/en/packaging/SOT_5_05-08-1635.pdf
footprint LT-S5_N (SOT-23, 5-Leads, Body 2.9x1.63mm, Pitch 0.95mm, IPC Medium Density)
footprint LT-S5_L (SOT-23, 5-Leads, Body 2.9x1.63mm, Pitch 0.95mm, IPC High Density)
footprint LT-S5_M (SOT-23, 5-Leads, Body 2.9x1.63mm, Pitch 0.95mm, IPC Low Density)
pins: 1 OUT (oc) "Open-Collector Output of Comparator. This pin provides drive for up to 40mA of load current. Off-state voltage may be as high as 36V above GND, regardless of VS used.", 2 GND (power) "Ground. This pin is also the low side return of the internal 400mV reference.", 3 -IN (in) "External Input for Comparator. The voltage on this pin can range from -0.3V to 36V with respect to GND regardless of VS used. The input is noninverting for the LT6703-3/LT6703HV-3, and inverting for the LT6703-2/LT6703HV-2. (See Datasheet)", 4 VS (power) "Supply Voltage. The parts are characterized for operation with 1.4V =< VS =< 18V with respect to GND", 5 NC

## LT6703HVCS5-2#TRMPBF
designator U?
Micropower, Low Voltage Comparator with 400 mV Reference, 1 Channel, 1.4 to 36 V, 0 to +70 degC, 5-pin Plastic TSOT-23 (S5), Mini Tape and Reel; Generic Part Number: LT6703HV-2; Manufacturer: Linear Technology; PartNumber: LT6703HVCS5-2#TRMPBF; Channels (#): 1; Prop Delay (us): 18; Supply Current (uA) Guaranteed: 11; Supply Current (uA) Typical: 6.5; Vos (mV) Typical: 5; Vs Max (V): 36; Vs Min (V): 1.4; DatasheetVersion: Rev D; PackageReference: S5; PackageDescription: 5-Pin Plastic TSOT-23, Body 2.9 x 1.63 mm, Pitch 0.95 mm; Supplier 1: Digi-Key; Supplier Part Number 1: LT6703HVCS5-2#TRMPBF-ND; Supplier 2: Newark; Supplier Part Number 2: 15N5501; Features: Comparator, Reference, Over-the-Top Inputs; RoHS: Y; Supply Voltage Range: 1.4 to 36 V; Mounting Technology: Surface Mount; Code_JEDEC: MO-193; ComponentLink1Description: Manufacturer URL; ComponentLink1URL: http://www.linear.com/; ComponentLink2Description: Datasheet; ComponentLink2URL: http://cds.linear.com/docs/en/datasheet/670323fd.pdf; ComponentLink3Description: Package Specification; ComponentLink3URL: http://cds.linear.com/docs/en/packaging/SOT_5_05-08-1635.pdf
footprint LT-S5_N (SOT-23, 5-Leads, Body 2.9x1.63mm, Pitch 0.95mm, IPC Medium Density)
footprint LT-S5_L (SOT-23, 5-Leads, Body 2.9x1.63mm, Pitch 0.95mm, IPC High Density)
footprint LT-S5_M (SOT-23, 5-Leads, Body 2.9x1.63mm, Pitch 0.95mm, IPC Low Density)
pins: 1 OUT (oc) "Open-Collector Output of Comparator. This pin provides drive for up to 40mA of load current. Off-state voltage may be as high as 36V above GND, regardless of VS used.", 2 GND (power) "Ground. This pin is also the low side return of the internal 400mV reference.", 3 -IN (in) "External Input for Comparator. The voltage on this pin can range from -0.3V to 36V with respect to GND regardless of VS used. The input is noninverting for the LT6703-3/LT6703HV-3, and inverting for the LT6703-2/LT6703HV-2. (See Datasheet)", 4 VS (power) "Supply Voltage. The parts are characterized for operation with 1.4V =< VS =< 18V with respect to GND", 5 NC

## LT6703HVCS5-2#TRPBF
designator U?
Micropower, Low Voltage Comparator with 400 mV Reference, 1 Channel, 1.4 to 36 V, 0 to +70 degC, 5-pin Plastic TSOT-23 (S5), Tape and Reel; Generic Part Number: LT6703HV-2; Manufacturer: Linear Technology; PartNumber: LT6703HVCS5-2#TRPBF; Channels (#): 1; Prop Delay (us): 18; Supply Current (uA) Guaranteed: 11; Supply Current (uA) Typical: 6.5; Vos (mV) Typical: 5; Vs Max (V): 36; Vs Min (V): 1.4; DatasheetVersion: Rev D; PackageReference: S5; PackageDescription: 5-Pin Plastic TSOT-23, Body 2.9 x 1.63 mm, Pitch 0.95 mm; Supplier 1: Digi-Key; Supplier Part Number 1: LT6703HVCS5-2#TRPBF-ND; Supplier 2: Newark; Supplier Part Number 2: 15N5502; Features: Comparator, Reference, Over-the-Top Inputs; RoHS: Y; Supply Voltage Range: 1.4 to 36 V; Mounting Technology: Surface Mount; Code_JEDEC: MO-193; ComponentLink1Description: Manufacturer URL; ComponentLink1URL: http://www.linear.com/; ComponentLink2Description: Datasheet; ComponentLink2URL: http://cds.linear.com/docs/en/datasheet/670323fd.pdf; ComponentLink3Description: Package Specification; ComponentLink3URL: http://cds.linear.com/docs/en/packaging/SOT_5_05-08-1635.pdf
footprint LT-S5_N (SOT-23, 5-Leads, Body 2.9x1.63mm, Pitch 0.95mm, IPC Medium Density)
footprint LT-S5_L (SOT-23, 5-Leads, Body 2.9x1.63mm, Pitch 0.95mm, IPC High Density)
footprint LT-S5_M (SOT-23, 5-Leads, Body 2.9x1.63mm, Pitch 0.95mm, IPC Low Density)
pins: 1 OUT (oc) "Open-Collector Output of Comparator. This pin provides drive for up to 40mA of load current. Off-state voltage may be as high as 36V above GND, regardless of VS used.", 2 GND (power) "Ground. This pin is also the low side return of the internal 400mV reference.", 3 -IN (in) "External Input for Comparator. The voltage on this pin can range from -0.3V to 36V with respect to GND regardless of VS used. The input is noninverting for the LT6703-3/LT6703HV-3, and inverting for the LT6703-2/LT6703HV-2. (See Datasheet)", 4 VS (power) "Supply Voltage. The parts are characterized for operation with 1.4V =< VS =< 18V with respect to GND", 5 NC